# Altium footprint library Connector_JST.PcbLib: 558 footprints (part 12 of 35)
Each footprint in its own frame and in the unit in brackets; x right, y up, seen from the top. Pads: shape width x height; smd on the part's side, far side on the other; paste and mask are expansions set on the pad; w line width, h text height; cw(c..) or ccw(c..) is an arc to the next point about the centre after c.
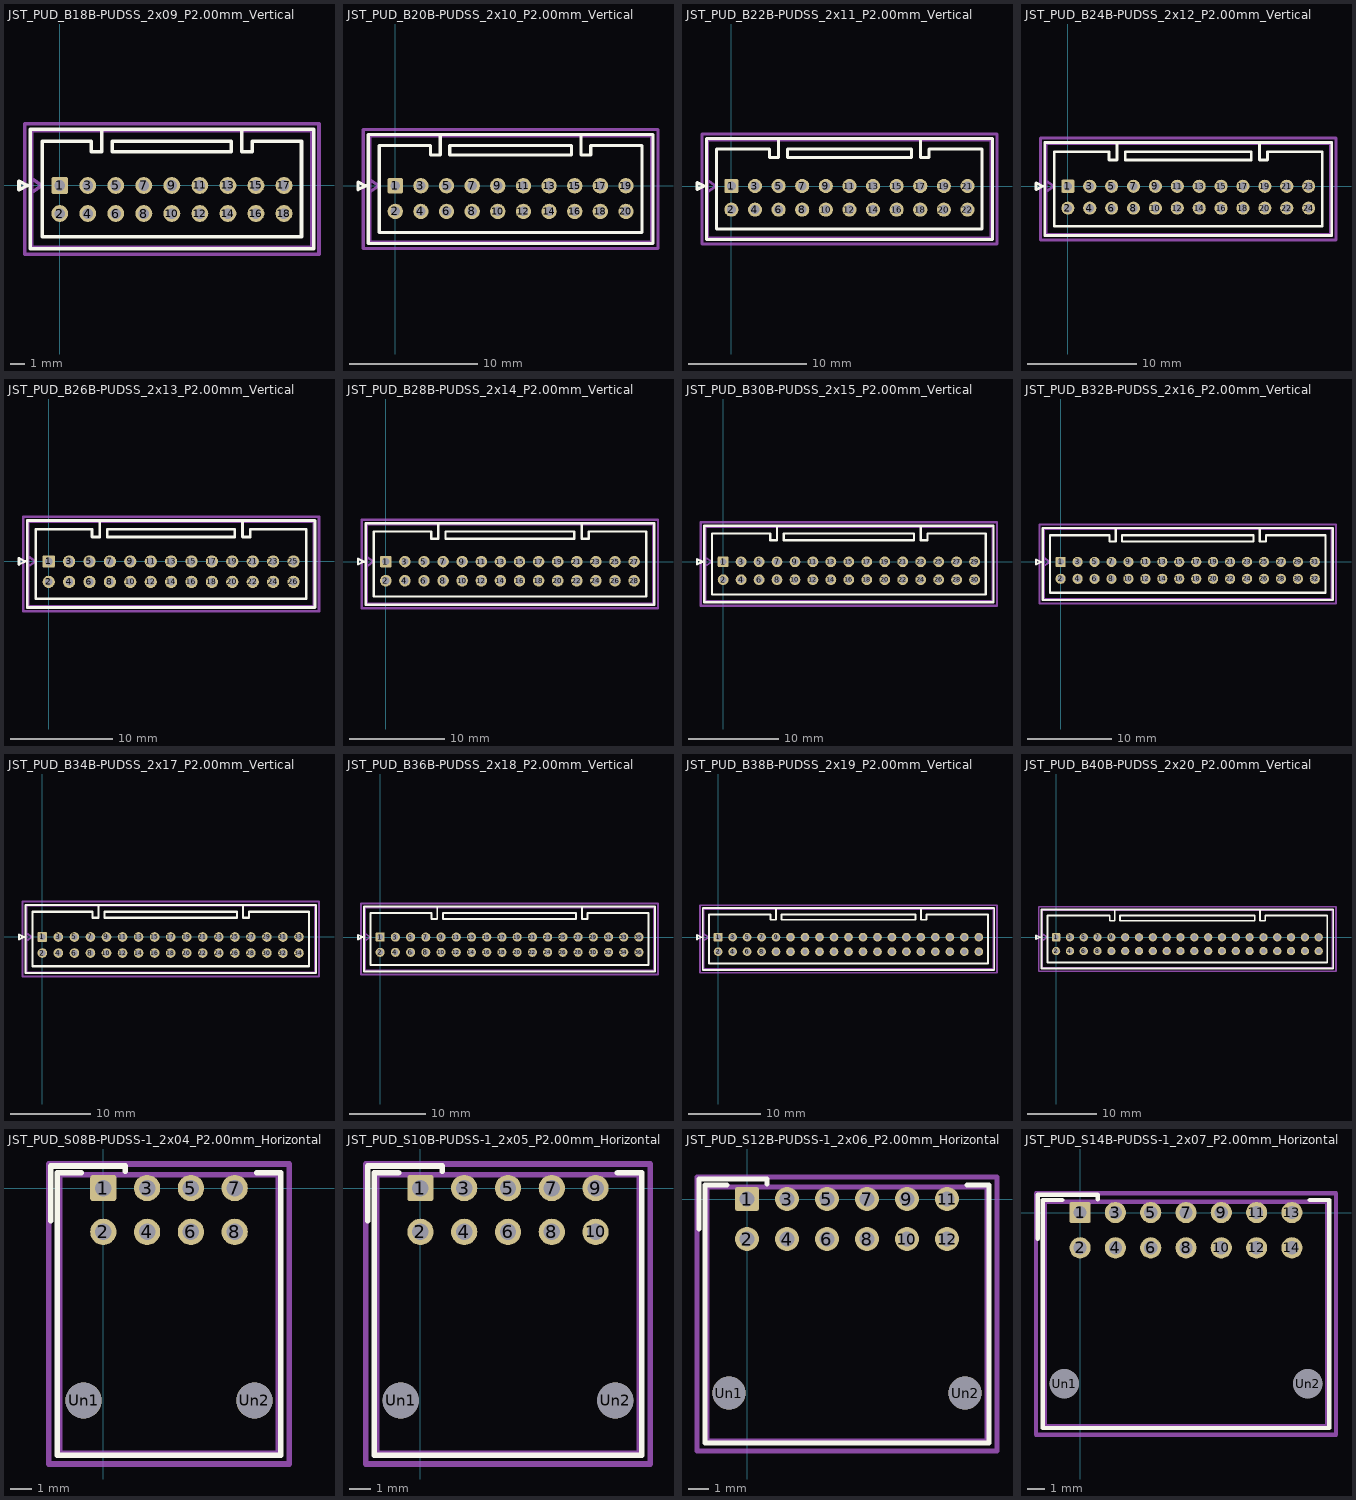
[diagram p11: the footprints below, top view; thin cyan lines are the x and y axes]

## JST_PUD_B18B-PUDSS_2x09_P2.00mm_Vertical [mm] "JST_PUD_B18B-PUDSS_2x09_P2.00mm_Vertical"
pads (18):
  rrect21% 1.2x1.2 hole 0.75: 1(0,0)
  round 1.2 hole 0.75: 2(0,-2) 3(2,0) 4(2,-2) 5(4,0) 6(4,-2) 7(6,0) 8(6,-2) 9(8,0) 10(8,-2) 11(10,0) 12(10,-2) 13(12,0) 14(12,-2) 15(14,0) 16(14,-2) 17(16,0) 18(16,-2)
F.SilkS:
  lines w0.254: 3,4.01 3,2.4 2.25,2.4 2.25,3.15 -1.25,3.15 -1.25,-3.65 8,-3.65 17.25,-3.65 17.25,3.15 13.75,3.15 13.75,2.4 13,2.4 13,4.01 ; -2.91,-0.3 -2.91,0.3 -2.31,0 -2.91,-0.3 ; -2.11,-4.51 -2.11,4.01 18.11,4.01 18.11,-4.51 -2.11,-4.51 ; 3.75,2.4 3.75,3.15 12.25,3.15 12.25,2.4 3.75,2.4
Top Component Center:
  lines w0.127: -0.127,0 0.127,0 ; 0,-0.127 0,0.127
Top Assembly:
  lines w0.254: -2,-0.5 -1.293,0 -2,0.5 ; -2,-4.4 -2,3.9 18,3.9 18,-4.4 -2,-4.4
Top Courtyard:
  lines w0.254: -2.5,-4.9 -2.5,4.4 18.5,4.4 18.5,-4.9 -2.5,-4.9
Top Designator:
  text ".Designator" at 4.698,1.18 h1.52

## JST_PUD_B20B-PUDSS_2x10_P2.00mm_Vertical [mm] "JST_PUD_B20B-PUDSS_2x10_P2.00mm_Vertical"
pads (20):
  rrect21% 1.2x1.2 hole 0.75: 1(0,0)
  round 1.2 hole 0.75: 2(0,-2) 3(2,0) 4(2,-2) 5(4,0) 6(4,-2) 7(6,0) 8(6,-2) 9(8,0) 10(8,-2) 11(10,0) 12(10,-2) 13(12,0) 14(12,-2) 15(14,0) 16(14,-2) 17(16,0) 18(16,-2) 19(18,0) 20(18,-2)
F.SilkS:
  lines w0.254: 3.5,4.01 3.5,2.4 2.75,2.4 2.75,3.15 -1.25,3.15 -1.25,-3.65 9,-3.65 19.25,-3.65 19.25,3.15 15.25,3.15 15.25,2.4 14.5,2.4 14.5,4.01 ; -2.91,-0.3 -2.91,0.3 -2.31,0 -2.91,-0.3 ; -2.11,-4.51 -2.11,4.01 20.11,4.01 20.11,-4.51 -2.11,-4.51 ; 4.25,2.4 4.25,3.15 13.75,3.15 13.75,2.4 4.25,2.4
Top Component Center:
  lines w0.127: -0.127,0 0.127,0 ; 0,-0.127 0,0.127
Top Assembly:
  lines w0.254: -2,-0.5 -1.293,0 -2,0.5 ; -2,-4.4 -2,3.9 20,3.9 20,-4.4 -2,-4.4
Top Courtyard:
  lines w0.254: -2.5,-4.9 -2.5,4.4 20.5,4.4 20.5,-4.9 -2.5,-4.9
Top Designator:
  text ".Designator" at 5.333,1.053 h1.52

## JST_PUD_B22B-PUDSS_2x11_P2.00mm_Vertical [mm] "JST_PUD_B22B-PUDSS_2x11_P2.00mm_Vertical"
pads (22):
  rrect21% 1.2x1.2 hole 0.75: 1(0,0)
  round 1.2 hole 0.75: 2(0,-2) 3(2,0) 4(2,-2) 5(4,0) 6(4,-2) 7(6,0) 8(6,-2) 9(8,0) 10(8,-2) 11(10,0) 12(10,-2) 13(12,0) 14(12,-2) 15(14,0) 16(14,-2) 17(16,0) 18(16,-2) 19(18,0) 20(18,-2) 21(20,0) 22(20,-2)
F.SilkS:
  lines w0.254: 4,4.01 4,2.4 3.25,2.4 3.25,3.15 -1.25,3.15 -1.25,-3.65 10,-3.65 21.25,-3.65 21.25,3.15 16.75,3.15 16.75,2.4 16,2.4 16,4.01 ; -2.91,-0.3 -2.91,0.3 -2.31,0 -2.91,-0.3 ; -2.11,-4.51 -2.11,4.01 22.11,4.01 22.11,-4.51 -2.11,-4.51 ; 4.75,2.4 4.75,3.15 15.25,3.15 15.25,2.4 4.75,2.4
Top Component Center:
  lines w0.127: -0.127,0 0.127,0 ; 0,-0.127 0,0.127
Top Assembly:
  lines w0.254: -2,-0.5 -1.293,0 -2,0.5 ; -2,-4.4 -2,3.9 22,3.9 22,-4.4 -2,-4.4
Top Courtyard:
  lines w0.254: -2.5,-4.9 -2.5,4.4 22.5,4.4 22.5,-4.9 -2.5,-4.9
Top Designator:
  text ".Designator" at 6.603,1.18 h1.52

## JST_PUD_B24B-PUDSS_2x12_P2.00mm_Vertical [mm] "JST_PUD_B24B-PUDSS_2x12_P2.00mm_Vertical"
pads (24):
  rrect21% 1.2x1.2 hole 0.75: 1(0,0)
  round 1.2 hole 0.75: 2(0,-2) 3(2,0) 4(2,-2) 5(4,0) 6(4,-2) 7(6,0) 8(6,-2) 9(8,0) 10(8,-2) 11(10,0) 12(10,-2) 13(12,0) 14(12,-2) 15(14,0) 16(14,-2) 17(16,0) 18(16,-2) 19(18,0) 20(18,-2) 21(20,0) 22(20,-2) 23(22,0) 24(22,-2)
F.SilkS:
  lines w0.254: 4.5,4.01 4.5,2.4 3.75,2.4 3.75,3.15 -1.25,3.15 -1.25,-3.65 11,-3.65 23.25,-3.65 23.25,3.15 18.25,3.15 18.25,2.4 17.5,2.4 17.5,4.01 ; -2.91,-0.3 -2.91,0.3 -2.31,0 -2.91,-0.3 ; -2.11,-4.51 -2.11,4.01 24.11,4.01 24.11,-4.51 -2.11,-4.51 ; 5.25,2.4 5.25,3.15 16.75,3.15 16.75,2.4 5.25,2.4
Top Component Center:
  lines w0.127: -0.127,0 0.127,0 ; 0,-0.127 0,0.127
Top Assembly:
  lines w0.254: -2,-0.5 -1.293,0 -2,0.5 ; -2,-4.4 -2,3.9 24,3.9 24,-4.4 -2,-4.4
Top Courtyard:
  lines w0.254: -2.5,-4.9 -2.5,4.4 24.5,4.4 24.5,-4.9 -2.5,-4.9
Top Designator:
  text ".Designator" at 7.492,1.053 h1.52

## JST_PUD_B26B-PUDSS_2x13_P2.00mm_Vertical [mm] "JST_PUD_B26B-PUDSS_2x13_P2.00mm_Vertical"
pads (26):
  rrect21% 1.2x1.2 hole 0.75: 1(0,0)
  round 1.2 hole 0.75: 2(0,-2) 3(2,0) 4(2,-2) 5(4,0) 6(4,-2) 7(6,0) 8(6,-2) 9(8,0) 10(8,-2) 11(10,0) 12(10,-2) 13(12,0) 14(12,-2) 15(14,0) 16(14,-2) 17(16,0) 18(16,-2) 19(18,0) 20(18,-2) 21(20,0) 22(20,-2) 23(22,0) 24(22,-2) 25(24,0) 26(24,-2)
F.SilkS:
  lines w0.254: 5,4.01 5,2.4 4.25,2.4 4.25,3.15 -1.25,3.15 -1.25,-3.65 12,-3.65 25.25,-3.65 25.25,3.15 19.75,3.15 19.75,2.4 19,2.4 19,4.01 ; -2.91,-0.3 -2.31,0 -2.91,0.3 -2.91,-0.3 ; -2.11,-4.51 26.11,-4.51 26.11,4.01 -2.11,4.01 -2.11,-4.51 ; 5.75,2.4 18.25,2.4 18.25,3.15 5.75,3.15 5.75,2.4
Top Component Center:
  lines w0.127: -0.127,0 0.127,0 ; 0,-0.127 0,0.127
Top Assembly:
  lines w0.254: -2,-0.5 -1.293,0 -2,0.5 ; -2,-4.4 26,-4.4 26,3.9 -2,3.9 -2,-4.4
Top Courtyard:
  lines w0.254: -2.5,-4.9 26.5,-4.9 26.5,4.4 -2.5,4.4 -2.5,-4.9
Top Designator:
  text ".Designator" at 8.635,1.18 h1.52

## JST_PUD_B28B-PUDSS_2x14_P2.00mm_Vertical [mm] "JST_PUD_B28B-PUDSS_2x14_P2.00mm_Vertical"
pads (28):
  rrect21% 1.2x1.2 hole 0.75: 1(0,0)
  round 1.2 hole 0.75: 2(0,-2) 3(2,0) 4(2,-2) 5(4,0) 6(4,-2) 7(6,0) 8(6,-2) 9(8,0) 10(8,-2) 11(10,0) 12(10,-2) 13(12,0) 14(12,-2) 15(14,0) 16(14,-2) 17(16,0) 18(16,-2) 19(18,0) 20(18,-2) 21(20,0) 22(20,-2) 23(22,0) 24(22,-2) 25(24,0) 26(24,-2) 27(26,0) 28(26,-2)
F.SilkS:
  lines w0.254: 5.5,4.01 5.5,2.4 4.75,2.4 4.75,3.15 -1.25,3.15 -1.25,-3.65 13,-3.65 27.25,-3.65 27.25,3.15 21.25,3.15 21.25,2.4 20.5,2.4 20.5,4.01 ; -2.91,-0.3 -2.91,0.3 -2.31,0 -2.91,-0.3 ; -2.11,-4.51 -2.11,4.01 28.11,4.01 28.11,-4.51 -2.11,-4.51 ; 6.25,2.4 6.25,3.15 19.75,3.15 19.75,2.4 6.25,2.4
Top Component Center:
  lines w0.127: -0.127,0 0.127,0 ; 0,-0.127 0,0.127
Top Assembly:
  lines w0.254: -2,-0.5 -1.293,0 -2,0.5 ; -2,-4.4 -2,3.9 28,3.9 28,-4.4 -2,-4.4
Top Courtyard:
  lines w0.254: -2.5,-4.9 -2.5,4.4 28.5,4.4 28.5,-4.9 -2.5,-4.9
Top Designator:
  text ".Designator" at 9.143,1.18 h1.52

## JST_PUD_B30B-PUDSS_2x15_P2.00mm_Vertical [mm] "JST_PUD_B30B-PUDSS_2x15_P2.00mm_Vertical"
pads (30):
  rrect21% 1.2x1.2 hole 0.75: 1(0,0)
  round 1.2 hole 0.75: 2(0,-2) 3(2,0) 4(2,-2) 5(4,0) 6(4,-2) 7(6,0) 8(6,-2) 9(8,0) 10(8,-2) 11(10,0) 12(10,-2) 13(12,0) 14(12,-2) 15(14,0) 16(14,-2) 17(16,0) 18(16,-2) 19(18,0) 20(18,-2) 21(20,0) 22(20,-2) 23(22,0) 24(22,-2) 25(24,0) 26(24,-2) 27(26,0) 28(26,-2) 29(28,0) 30(28,-2)
F.SilkS:
  lines w0.254: 6,4.01 6,2.4 5.25,2.4 5.25,3.15 -1.25,3.15 -1.25,-3.65 14,-3.65 29.25,-3.65 29.25,3.15 22.75,3.15 22.75,2.4 22,2.4 22,4.01 ; -2.91,-0.3 -2.91,0.3 -2.31,0 -2.91,-0.3 ; -2.11,-4.51 -2.11,4.01 30.11,4.01 30.11,-4.51 -2.11,-4.51 ; 6.75,2.4 6.75,3.15 21.25,3.15 21.25,2.4 6.75,2.4
Top Component Center:
  lines w0.127: -0.127,0 0.127,0 ; 0,-0.127 0,0.127
Top Assembly:
  lines w0.254: -2,-0.5 -1.293,0 -2,0.5 ; -2,-4.4 -2,3.9 30,3.9 30,-4.4 -2,-4.4
Top Courtyard:
  lines w0.254: -2.5,-4.9 -2.5,4.4 30.5,4.4 30.5,-4.9 -2.5,-4.9
Top Designator:
  text ".Designator" at 10.54,1.053 h1.52

## JST_PUD_B32B-PUDSS_2x16_P2.00mm_Vertical [mm] "JST_PUD_B32B-PUDSS_2x16_P2.00mm_Vertical"
pads (32):
  rrect21% 1.2x1.2 hole 0.75: 1(0,0)
  round 1.2 hole 0.75: 2(0,-2) 3(2,0) 4(2,-2) 5(4,0) 6(4,-2) 7(6,0) 8(6,-2) 9(8,0) 10(8,-2) 11(10,0) 12(10,-2) 13(12,0) 14(12,-2) 15(14,0) 16(14,-2) 17(16,0) 18(16,-2) 19(18,0) 20(18,-2) 21(20,0) 22(20,-2) 23(22,0) 24(22,-2) 25(24,0) 26(24,-2) 27(26,0) 28(26,-2) 29(28,0) 30(28,-2) 31(30,0) 32(30,-2)
F.SilkS:
  lines w0.254: 6.5,4.01 6.5,2.4 5.75,2.4 5.75,3.15 -1.25,3.15 -1.25,-3.65 15,-3.65 31.25,-3.65 31.25,3.15 24.25,3.15 24.25,2.4 23.5,2.4 23.5,4.01 ; -2.91,-0.3 -2.31,0 -2.91,0.3 -2.91,-0.3 ; -2.11,-4.51 32.11,-4.51 32.11,4.01 -2.11,4.01 -2.11,-4.51 ; 7.25,2.4 22.75,2.4 22.75,3.15 7.25,3.15 7.25,2.4
Top Component Center:
  lines w0.127: -0.127,0 0.127,0 ; 0,-0.127 0,0.127
Top Assembly:
  lines w0.254: -2,-0.5 -1.293,0 -2,0.5 ; -2,-4.4 32,-4.4 32,3.9 -2,3.9 -2,-4.4
Top Courtyard:
  lines w0.254: -2.5,-4.9 32.5,-4.9 32.5,4.4 -2.5,4.4 -2.5,-4.9
Top Designator:
  text ".Designator" at 11.175,1.053 h1.52

## JST_PUD_B34B-PUDSS_2x17_P2.00mm_Vertical [mm] "JST_PUD_B34B-PUDSS_2x17_P2.00mm_Vertical"
pads (34):
  rrect21% 1.2x1.2 hole 0.75: 1(0,0)
  round 1.2 hole 0.75: 2(0,-2) 3(2,0) 4(2,-2) 5(4,0) 6(4,-2) 7(6,0) 8(6,-2) 9(8,0) 10(8,-2) 11(10,0) 12(10,-2) 13(12,0) 14(12,-2) 15(14,0) 16(14,-2) 17(16,0) 18(16,-2) 19(18,0) 20(18,-2) 21(20,0) 22(20,-2) 23(22,0) 24(22,-2) 25(24,0) 26(24,-2) 27(26,0) 28(26,-2) 29(28,0) 30(28,-2) 31(30,0) 32(30,-2) 33(32,0) 34(32,-2)
F.SilkS:
  lines w0.254: 7,4.01 7,2.4 6.25,2.4 6.25,3.15 -1.25,3.15 -1.25,-3.65 16,-3.65 33.25,-3.65 33.25,3.15 25.75,3.15 25.75,2.4 25,2.4 25,4.01 ; -2.91,-0.3 -2.91,0.3 -2.31,0 -2.91,-0.3 ; -2.11,-4.51 -2.11,4.01 34.11,4.01 34.11,-4.51 -2.11,-4.51 ; 7.75,2.4 7.75,3.15 24.25,3.15 24.25,2.4 7.75,2.4
Top Component Center:
  lines w0.127: -0.127,0 0.127,0 ; 0,-0.127 0,0.127
Top Assembly:
  lines w0.254: -2,-0.5 -1.293,0 -2,0.5 ; -2,-4.4 -2,3.9 34,3.9 34,-4.4 -2,-4.4
Top Courtyard:
  lines w0.254: -2.5,-4.9 -2.5,4.4 34.5,4.4 34.5,-4.9 -2.5,-4.9
Top Designator:
  text ".Designator" at 12.445,1.18 h1.52

## JST_PUD_B36B-PUDSS_2x18_P2.00mm_Vertical [mm] "JST_PUD_B36B-PUDSS_2x18_P2.00mm_Vertical"
pads (36):
  rrect21% 1.2x1.2 hole 0.75: 1(0,0)
  round 1.2 hole 0.75: 2(0,-2) 3(2,0) 4(2,-2) 5(4,0) 6(4,-2) 7(6,0) 8(6,-2) 9(8,0) 10(8,-2) 11(10,0) 12(10,-2) 13(12,0) 14(12,-2) 15(14,0) 16(14,-2) 17(16,0) 18(16,-2) 19(18,0) 20(18,-2) 21(20,0) 22(20,-2) 23(22,0) 24(22,-2) 25(24,0) 26(24,-2) 27(26,0) 28(26,-2) 29(28,0) 30(28,-2) 31(30,0) 32(30,-2) 33(32,0) 34(32,-2) 35(34,0) 36(34,-2)
F.SilkS:
  lines w0.254: 7.5,4.01 7.5,2.4 6.75,2.4 6.75,3.15 -1.25,3.15 -1.25,-3.65 17,-3.65 35.25,-3.65 35.25,3.15 27.25,3.15 27.25,2.4 26.5,2.4 26.5,4.01 ; -2.91,-0.3 -2.91,0.3 -2.31,0 -2.91,-0.3 ; -2.11,-4.51 -2.11,4.01 36.11,4.01 36.11,-4.51 -2.11,-4.51 ; 8.25,2.4 8.25,3.15 25.75,3.15 25.75,2.4 8.25,2.4
Top Component Center:
  lines w0.127: -0.127,0 0.127,0 ; 0,-0.127 0,0.127
Top Assembly:
  lines w0.254: -2,-0.5 -1.293,0 -2,0.5 ; -2,-4.4 -2,3.9 36,3.9 36,-4.4 -2,-4.4
Top Courtyard:
  lines w0.254: -2.5,-4.9 -2.5,4.4 36.5,4.4 36.5,-4.9 -2.5,-4.9
Top Designator:
  text ".Designator" at 13.207,1.053 h1.52

## JST_PUD_B38B-PUDSS_2x19_P2.00mm_Vertical [mm] "JST_PUD_B38B-PUDSS_2x19_P2.00mm_Vertical"
pads (38):
  rrect21% 1.2x1.2 hole 0.75: 1(0,0)
  round 1.2 hole 0.75: 2(0,-2) 3(2,0) 4(2,-2) 5(4,0) 6(4,-2) 7(6,0) 8(6,-2) 9(8,0) 10(8,-2) 11(10,0) 12(10,-2) 13(12,0) 14(12,-2) 15(14,0) 16(14,-2) 17(16,0) 18(16,-2) 19(18,0) 20(18,-2) 21(20,0) 22(20,-2) 23(22,0) 24(22,-2) 25(24,0) 26(24,-2) 27(26,0) 28(26,-2) 29(28,0) 30(28,-2) 31(30,0) 32(30,-2) 33(32,0) 34(32,-2) 35(34,0) 36(34,-2) 37(36,0) 38(36,-2)
F.SilkS:
  lines w0.254: 8,4.01 8,2.4 7.25,2.4 7.25,3.15 -1.25,3.15 -1.25,-3.65 18,-3.65 37.25,-3.65 37.25,3.15 28.75,3.15 28.75,2.4 28,2.4 28,4.01 ; -2.91,-0.3 -2.91,0.3 -2.31,0 -2.91,-0.3 ; -2.11,-4.51 -2.11,4.01 38.11,4.01 38.11,-4.51 -2.11,-4.51 ; 8.75,2.4 8.75,3.15 27.25,3.15 27.25,2.4 8.75,2.4
Top Component Center:
  lines w0.127: -0.127,0 0.127,0 ; 0,-0.127 0,0.127
Top Assembly:
  lines w0.254: -2,-0.5 -1.293,0 -2,0.5 ; -2,-4.4 -2,3.9 38,3.9 38,-4.4 -2,-4.4
Top Courtyard:
  lines w0.254: -2.5,-4.9 -2.5,4.4 38.5,4.4 38.5,-4.9 -2.5,-4.9
Top Designator:
  text ".Designator" at 14.858,1.18 h1.52

## JST_PUD_B40B-PUDSS_2x20_P2.00mm_Vertical [mm] "JST_PUD_B40B-PUDSS_2x20_P2.00mm_Vertical"
pads (40):
  rrect21% 1.2x1.2 hole 0.75: 1(0,0)
  round 1.2 hole 0.75: 2(0,-2) 3(2,0) 4(2,-2) 5(4,0) 6(4,-2) 7(6,0) 8(6,-2) 9(8,0) 10(8,-2) 11(10,0) 12(10,-2) 13(12,0) 14(12,-2) 15(14,0) 16(14,-2) 17(16,0) 18(16,-2) 19(18,0) 20(18,-2) 21(20,0) 22(20,-2) 23(22,0) 24(22,-2) 25(24,0) 26(24,-2) 27(26,0) 28(26,-2) 29(28,0) 30(28,-2) 31(30,0) 32(30,-2) 33(32,0) 34(32,-2) 35(34,0) 36(34,-2) 37(36,0) 38(36,-2) 39(38,0) 40(38,-2)
F.SilkS:
  lines w0.254: 8.5,4.01 8.5,2.4 7.75,2.4 7.75,3.15 -1.25,3.15 -1.25,-3.65 19,-3.65 39.25,-3.65 39.25,3.15 30.25,3.15 30.25,2.4 29.5,2.4 29.5,4.01 ; -2.91,-0.3 -2.91,0.3 -2.31,0 -2.91,-0.3 ; -2.11,-4.51 -2.11,4.01 40.11,4.01 40.11,-4.51 -2.11,-4.51 ; 9.25,2.4 9.25,3.15 28.75,3.15 28.75,2.4 9.25,2.4
Top Component Center:
  lines w0.127: -0.127,0 0.127,0 ; 0,-0.127 0,0.127
Top Assembly:
  lines w0.254: -2,-0.5 -1.293,0 -2,0.5 ; -2,-4.4 -2,3.9 40,3.9 40,-4.4 -2,-4.4
Top Courtyard:
  lines w0.254: -2.5,-4.9 -2.5,4.4 40.5,4.4 40.5,-4.9 -2.5,-4.9
Top Designator:
  text ".Designator" at 15.493,1.18 h1.52

## JST_PUD_S08B-PUDSS-1_2x04_P2.00mm_Horizontal [mm] "JST_PUD_S08B-PUDSS-1_2x04_P2.00mm_Horizontal"
pads (10):
  rrect21% 1.2x1.2 hole 0.75: 1(0,0)
  round 1.2 hole 0.75: 2(0,-2) 3(2,0) 4(2,-2) 5(4,0) 6(4,-2) 7(6,0) 8(6,-2)
  round 1.65 hole 1.65: Un1(-0.9,-9.7) Un2(6.9,-9.7)
F.SilkS:
  lines w0.254: -2.41,-1.49 -2.41,1.01 1,1.01 1,0.76 ; -1,0.71 -2.11,0.71 -2.11,-12.21 3,-12.21 8.11,-12.21 8.11,0.71 7,0.71
Top Component Center:
  lines w0.127: -0.127,0 0.127,0 ; 0,-0.127 0,0.127
Top Assembly:
  lines w0.254: -0.5,0.6 0,-0.107 0.5,0.6 ; -2,-12.1 -2,0.6 8,0.6 8,-12.1 -2,-12.1
Top Courtyard:
  lines w0.254: -2.5,-12.6 -2.5,1.1 8.5,1.1 8.5,-12.6 -2.5,-12.6
Top Designator:
  text ".Designator" at -0.43,-6.094 h1.52

## JST_PUD_S10B-PUDSS-1_2x05_P2.00mm_Horizontal [mm] "JST_PUD_S10B-PUDSS-1_2x05_P2.00mm_Horizontal"
pads (12):
  rrect21% 1.2x1.2 hole 0.75: 1(0,0)
  round 1.2 hole 0.75: 2(0,-2) 3(2,0) 4(2,-2) 5(4,0) 6(4,-2) 7(6,0) 8(6,-2) 9(8,0) 10(8,-2)
  round 1.65 hole 1.65: Un1(-0.9,-9.7) Un2(8.9,-9.7)
F.SilkS:
  lines w0.254: -2.41,-1.49 -2.41,1.01 1,1.01 1,0.76 ; -1,0.71 -2.11,0.71 -2.11,-12.21 4,-12.21 10.11,-12.21 10.11,0.71 9,0.71
Top Component Center:
  lines w0.127: -0.127,0 0.127,0 ; 0,-0.127 0,0.127
Top Assembly:
  lines w0.254: -0.5,0.6 0,-0.107 0.5,0.6 ; -2,-12.1 10,-12.1 10,0.6 -2,0.6 -2,-12.1
Top Courtyard:
  lines w0.254: -2.5,-12.6 10.5,-12.6 10.5,1.1 -2.5,1.1 -2.5,-12.6
Top Designator:
  text ".Designator" at 0.57,-6.094 h1.52

## JST_PUD_S12B-PUDSS-1_2x06_P2.00mm_Horizontal [mm] "JST_PUD_S12B-PUDSS-1_2x06_P2.00mm_Horizontal"
pads (14):
  rrect21% 1.2x1.2 hole 0.75: 1(0,0)
  round 1.2 hole 0.75: 2(0,-2) 3(2,0) 4(2,-2) 5(4,0) 6(4,-2) 7(6,0) 8(6,-2) 9(8,0) 10(8,-2) 11(10,0) 12(10,-2)
  round 1.65 hole 1.65: Un1(-0.9,-9.7) Un2(10.9,-9.7)
F.SilkS:
  lines w0.254: -2.41,-1.49 -2.41,1.01 1,1.01 1,0.76 ; -1,0.71 -2.11,0.71 -2.11,-12.21 5,-12.21 12.11,-12.21 12.11,0.71 11,0.71
Top Component Center:
  lines w0.127: -0.127,0 0.127,0 ; 0,-0.127 0,0.127
Top Assembly:
  lines w0.254: -0.5,0.6 0,-0.107 0.5,0.6 ; -2,-12.1 -2,0.6 12,0.6 12,-12.1 -2,-12.1
Top Courtyard:
  lines w0.254: -2.5,-12.6 -2.5,1.1 12.5,1.1 12.5,-12.6 -2.5,-12.6
Top Designator:
  text ".Designator" at 1.57,-6.094 h1.52

## JST_PUD_S14B-PUDSS-1_2x07_P2.00mm_Horizontal [mm] "JST_PUD_S14B-PUDSS-1_2x07_P2.00mm_Horizontal"
pads (16):
  rrect21% 1.2x1.2 hole 0.75: 1(0,0)
  round 1.2 hole 0.75: 2(0,-2) 3(2,0) 4(2,-2) 5(4,0) 6(4,-2) 7(6,0) 8(6,-2) 9(8,0) 10(8,-2) 11(10,0) 12(10,-2) 13(12,0) 14(12,-2)
  round 1.65 hole 1.65: Un1(-0.9,-9.7) Un2(12.9,-9.7)
F.SilkS:
  lines w0.254: -2.41,-1.49 -2.41,1.01 1,1.01 1,0.76 ; -1,0.71 -2.11,0.71 -2.11,-12.21 6,-12.21 14.11,-12.21 14.11,0.71 13,0.71
Top Component Center:
  lines w0.127: -0.127,0 0.127,0 ; 0,-0.127 0,0.127
Top Assembly:
  lines w0.254: -0.5,0.6 0,-0.107 0.5,0.6 ; -2,-12.1 -2,0.6 14,0.6 14,-12.1 -2,-12.1
Top Courtyard:
  lines w0.254: -2.5,-12.6 -2.5,1.1 14.5,1.1 14.5,-12.6 -2.5,-12.6
Top Designator:
  text ".Designator" at 2.57,-6.094 h1.52